# EAGLE library part SP485EN-L (library Exar_By_element14_Batch_1)
Enhanced Low Power Half-Duplex RS-485 Transceivers
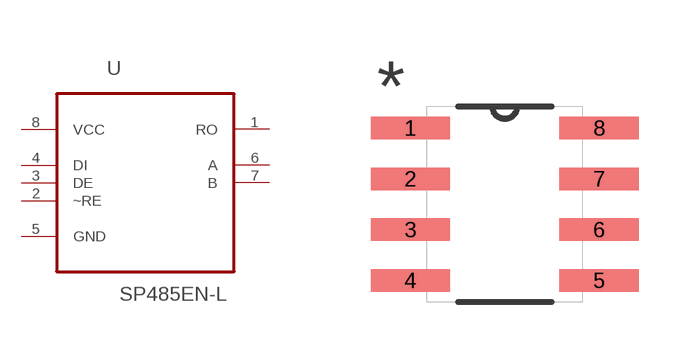
[diagram p48: symbol with the pads of SOIC127P600X175-8N; footprint SOIC127P600X175-8N]

Designator prefix U

## SP485EN-L (MPN: SP485EN-L; OC_FARNELL: 1758659; OC_NEWARK: 24R0581; PACKAGE: NSOIC-8; SUPPLIER: Exar)  [SOIC127P600X175-8N]
1  RO  out
2  ~RE  in
3  DE  in
4  DI  in
5  GND  pas
6  A
7  B
8  VCC  pwr

## Footprint SOIC127P600X175-8N (pad centres in mm)
smd 1.981 x 0.559: 1 -2.362,1.905; 2 -2.362,0.635; 3 -2.362,-0.635; 4 -2.362,-1.905; 5 2.362,-1.905; 6 2.362,-0.635; 7 2.362,0.635; 8 2.362,1.905